# Altium schematic symbol library LTC6401IUD-26TR.SchLib: 1 symbol
Pins are listed as number, name and electrical type; pins without a type are passive.

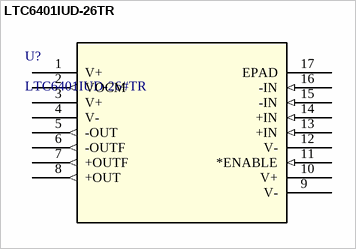
[diagram p0: symbol LTC6401IUD-26TR]

## LTC6401IUD-26TR
designator U?, comment LTC6401IUD-26#TR
No Description Available; Manufacturer_Name: Analog Devices Inc; Copyright: Copyright (C) 2026 Ultra Librarian. All rights reserved.; Manufacturer_Part_Number: LTC6401IUD-26#TR; RefDes: RefDes; Type: Type
footprint QFN-16_UD_LIT
pins: 1 V+ (power), 2 VOCM (out), 3 V+ (power), 4 V- (power), 5 -OUT (out), 6 -OUTF (out), 7 +OUTF (out), 8 +OUT (out), 9 V- (power), 10 V+ (power), 11 *ENABLE (in), 12 V- (power), 13 +IN (in), 14 +IN (in), 15 -IN (in), 16 -IN (in), 17 EPAD